# Altium schematic symbol library 74HC4051.SchLib: 1 symbol
Pins are listed as number, name and electrical type; pins without a type are passive.

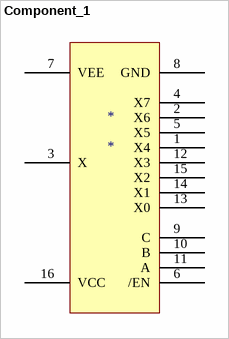
[diagram p0: symbol Component_1]

## Component_1
designator *
pins: 1 X4, 2 X6, 3 X, 4 X7, 5 X5, 6 /EN, 7 VEE, 8 GND, 9 C, 10 B, 11 A, 12 X3, 13 X0, 14 X1, 15 X2, 16 VCC